# Altium schematic symbol library P MOSFET.SchLib: 1 symbol
Pins are listed as number, name and electrical type; pins without a type are passive.

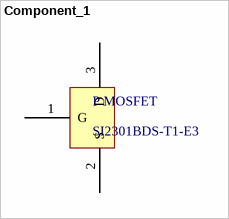
[diagram p0: symbol Component_1]

## Component_1
designator P MOSFET, comment SI2301BDS-T1-E3
MOSFET 20V 2.0A 0.9W
footprint PCBComponent_1
pins: 1 G, 2 S, 3 D